# Altium integrated library Motorola Interface AC Motor Controller.IntLib: 3 symbols
Pins are listed as number, name and electrical type; pins without a type are passive.

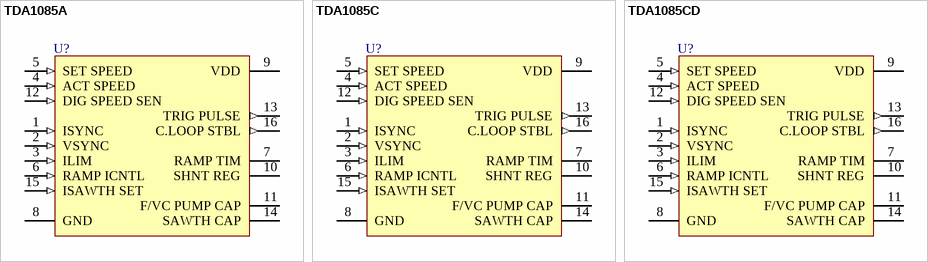
[diagram p0: symbols TDA1085A to TDA1085CD]

## TDA1085A
designator U?
Universal Motor Speed Controller; Published: 17-Jul-2002; LatestRevisionDate: 06-Jun-2005; LatestRevisionNote: Stylized 3D Model Added.; DatasheetVersion: 1988; PackageReference: 648-06; Publisher: Altium Limited; PackageDescription: DIP; 16 Leads; Row Spacing 7.62 mm; Pitch 2.54 mm
footprint 648-06 (DIP; 16 Leads; Row Spacing 7.62 mm; Pitch 2.54 mm)
3D model 648-06 (DIP; 16 Leads; Row Spacing 7.62 mm; Pitch 2.54 mm)
pins: 1 ISYNC (in), 2 VSYNC (in), 3 ILIM (in), 4 ACT SPEED (in), 5 SET SPEED (in), 6 RAMP ICNTL (in), 7 RAMP TIM, 8 GND (power), 9 VDD (power), 10 SHNT REG, 11 F/VC PUMP CAP, 12 DIG SPEED SEN (in), 13 TRIG PULSE (out), 14 SAWTH CAP, 15 ISAWTH SET (in), 16 C.LOOP STBL (out)

## TDA1085C
designator U?
Universal Motor Speed Controller; Published: 17-Jul-2002; LatestRevisionDate: 06-Jun-2005; LatestRevisionNote: Stylized 3D Model Added.; DatasheetVersion: 1988; PackageReference: 648-06; Publisher: Altium Limited; PackageDescription: DIP; 16 Leads; Row Spacing 7.62 mm; Pitch 2.54 mm
footprint 648-06 (DIP; 16 Leads; Row Spacing 7.62 mm; Pitch 2.54 mm)
3D model 648-06 (DIP; 16 Leads; Row Spacing 7.62 mm; Pitch 2.54 mm)
pins: 1 ISYNC (in), 2 VSYNC (in), 3 ILIM (in), 4 ACT SPEED (in), 5 SET SPEED (in), 6 RAMP ICNTL (in), 7 RAMP TIM, 8 GND (power), 9 VDD (power), 10 SHNT REG, 11 F/VC PUMP CAP, 12 DIG SPEED SEN (in), 13 TRIG PULSE (out), 14 SAWTH CAP, 15 ISAWTH SET (in), 16 C.LOOP STBL (out)

## TDA1085CD
designator U?
Universal Motor Speed Controller; Published: 17-Jul-2002; LatestRevisionDate: 13-Apr-2006; LatestRevisionNote: IPC-7351 Footprint Added.; DatasheetVersion: 1988; PackageVersion: 1991; PackageReference: 751B-03; Publisher: Altium Limited; PackageDescription: 16-Pin Small Outline Integrated Circuit 1.27 mm Pitch; Code_JEDEC: MS-012-AC; Code_IPC: SOIC127P600-16
footprint 751B-03_N (SOIC, 16-Leads, Body 9.9x3.9mm, Pitch 1.27mm, IPC Medium Density)
footprint 751B-03_L (SOIC, 16-Leads, Body 9.9x3.9mm, Pitch 1.27mm, IPC High Density)
footprint 751B-03_M (SOIC, 16-Leads, Body 9.9x3.9mm, Pitch 1.27mm, IPC Low Density)
3D model 751B-03 (16-Pin Small Outline Integrated Circuit 1.27 mm Pitch)
pins: 1 ISYNC (in), 2 VSYNC (in), 3 ILIM (in), 4 ACT SPEED (in), 5 SET SPEED (in), 6 RAMP ICNTL (in), 7 RAMP TIM, 8 GND (power), 9 VDD (power), 10 SHNT REG, 11 F/VC PUMP CAP, 12 DIG SPEED SEN (in), 13 TRIG PULSE (out), 14 SAWTH CAP, 15 ISAWTH SET (in), 16 C.LOOP STBL (out)